# EAGLE library part VI-VEML6070 (library FaBo-Mems)
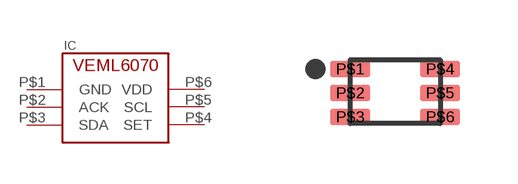
[diagram p15: symbol with the pads of VISHAY-VEML6070; footprint VISHAY-VEML6070]

Designator prefix IC

## VI-VEML6070  [VISHAY-VEML6070]
P$1  GND
P$2  ACK
P$3  SDA
P$4  SET
P$5  SCL
P$6  VDD

## Footprint VISHAY-VEML6070 (pad centres in mm)
smd 1 x 0.4: P$1 -1.125,0.57; P$2 -1.125,-0.03; P$3 -1.125,-0.63; P$4 1.125,0.57; P$5 1.125,-0.03; P$6 1.125,-0.63